# Altium schematic symbol library Relay.SchLib: 1 symbol
Pins are listed as number, name and electrical type; pins without a type are passive.

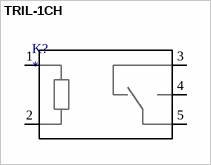
[diagram p0: symbol TRIL-1CH]

## TRIL-1CH
designator K?
Name: *
pins: 1 17, 2 18, 3 19, 4 20, 5 21